# EAGLE library part MEGA8L (library prasad_component)
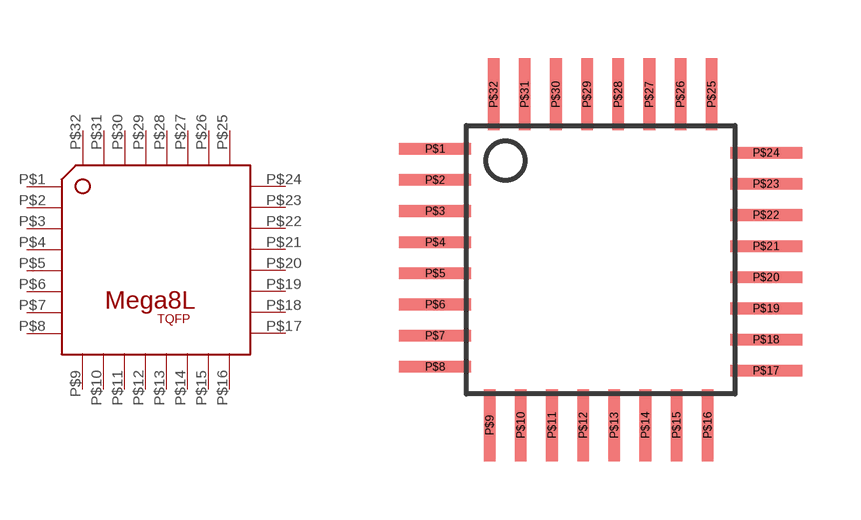
[diagram p0: symbol with the pads of MEGA8L; footprint MEGA8L]

Designator prefix -

## MEGA8L  [MEGA8L]
P$1  P$1
P$2  P$2
P$3  P$3
P$4  P$4
P$5  P$5
P$6  P$6
P$7  P$7
P$8  P$8
P$9  P$9
P$10  P$10
P$11  P$11
P$12  P$12
P$13  P$13
P$14  P$14
P$15  P$15
P$16  P$16
P$17  P$17
P$18  P$18
P$19  P$19
P$20  P$20
P$21  P$21
P$22  P$22
P$23  P$23
P$24  P$24
P$25  P$25
P$26  P$26
P$27  P$27
P$28  P$28
P$29  P$29
P$30  P$30
P$31  P$31
P$32  P$32

## Footprint MEGA8L (pad centres in mm)
smd 1.85 x 0.3: P$1 -4.2,2.8; P$2 -4.2,2; P$3 -4.2,1.2; P$4 -4.2,0.4; P$5 -4.2,-0.4; P$6 -4.2,-1.2; P$7 -4.2,-2; P$8 -4.2,-2.8; P$17 4.3,-2.9; P$18 4.3,-2.1; P$19 4.3,-1.3; P$20 4.3,-0.5; P$21 4.3,0.3; P$22 4.3,1.1; P$23 4.3,1.9; P$24 4.3,2.7
smd 0.3 x 1.85: P$9 -2.8,-4.3; P$10 -2,-4.3; P$11 -1.2,-4.3; P$12 -0.4,-4.3; P$13 0.4,-4.3; P$14 1.2,-4.3; P$15 2,-4.3; P$16 2.8,-4.3; P$25 2.9,4.2; P$26 2.1,4.2; P$27 1.3,4.2; P$28 0.5,4.2; P$29 -0.3,4.2; P$30 -1.1,4.2; P$31 -1.9,4.2; P$32 -2.7,4.2